# EAGLE library part ADS1115LIDGSR (library ADS1115LIDGSR)
Analog to Digital Converters - ADC 16-bit, 860-SPS four-channel delta-sigma ADC with PGA, comparator and 1.8-V IC bus voltage support 10-VSSOP -40 to 125 Source: Datasheet <https://www.ti.com/lit/ds/symlink/ads1115l.pdf?ts=1719994580469&ref_url=https%3A%2F%2Fwww.ti.com%2Fsitesearch%2Fen-us%2Fdocs%2Funiversalsearch.tsp%3FlangPref%3Den-US>
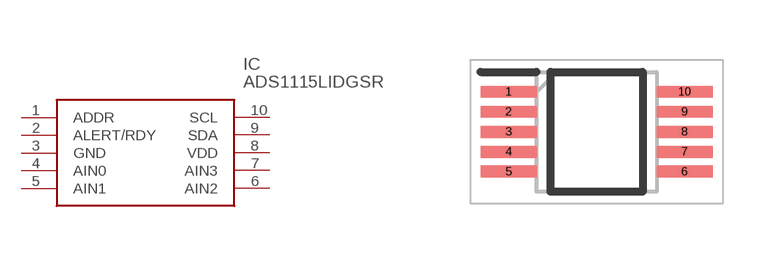
[diagram p0: symbol with the pads of SOP50P490X110-10N; footprint SOP50P490X110-10N]

Designator prefix IC

## ADS1115LIDGSR (Arrow_Part_Number: ADS1115LIDGSR; Arrow_Price-Stock: https://www.arrow.com/en/products/ads1115lidgsr/texas-instruments?utm_currency=USD&region=nac; Description: Analog to Digital Converters - ADC 16-bit, 860-SPS four-channel delta-sigma ADC with PGA, comparator and 1.8-V IC bus voltage support 10-VSSOP -40 to 125; Height: 1.1mm; Manufacturer_Name: Texas Instruments; Manufacturer_Part_Number: ADS1115LIDGSR; Mouser_Part_Number: 595-ADS1115LIDGSR; Mouser_Price-Stock: https://www.mouser.co.uk/ProductDetail/Texas-Instruments/ADS1115LIDGSR?qs=mELouGlnn3cukRGa5QBtug%3D%3D)  [SOP50P490X110-10N]
1  ADDR
2  ALERT/RDY
3  GND
4  AIN0
5  AIN1
6  AIN2
7  AIN3
8  VDD
9  SDA
10  SCL

## Footprint SOP50P490X110-10N (pad centres in mm)
DGS0010A
smd 1.4 x 0.3: 1 -2.2,1; 2 -2.2,0.5; 3 -2.2,0; 4 -2.2,-0.5; 5 -2.2,-1; 6 2.2,-1; 7 2.2,-0.5; 8 2.2,0; 9 2.2,0.5; 10 2.2,1